# EAGLE library part MH3-2 (library Domino)
2x3 Pin Male Header
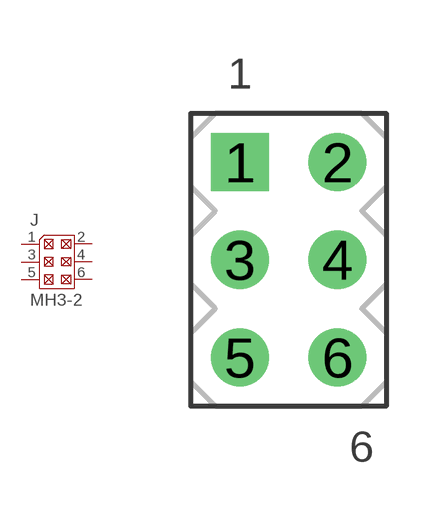
[diagram p35: symbol with the pads of MH3-2-0.1; footprint MH3-2-0.1]

Designator prefix J

## MH3-2  [MH3-2-0.1]
1  1  pas
2  2  pas
3  3  pas
4  4  pas
5  5  pas
6  6  pas

## Footprint MH3-2-0.1 (pad centres in mm)
2x3 Pin Male Header, 0.1" Pitch
drill 1 square: 1 -1.27,2.54
drill 1: 2 1.27,2.54; 3 -1.27,0; 4 1.27,0; 5 -1.27,-2.54; 6 1.27,-2.54